# Altium schematic symbol library FMC_SDR.SchLib: 34 symbols
Pins are listed as number, name and electrical type; pins without a type are passive.

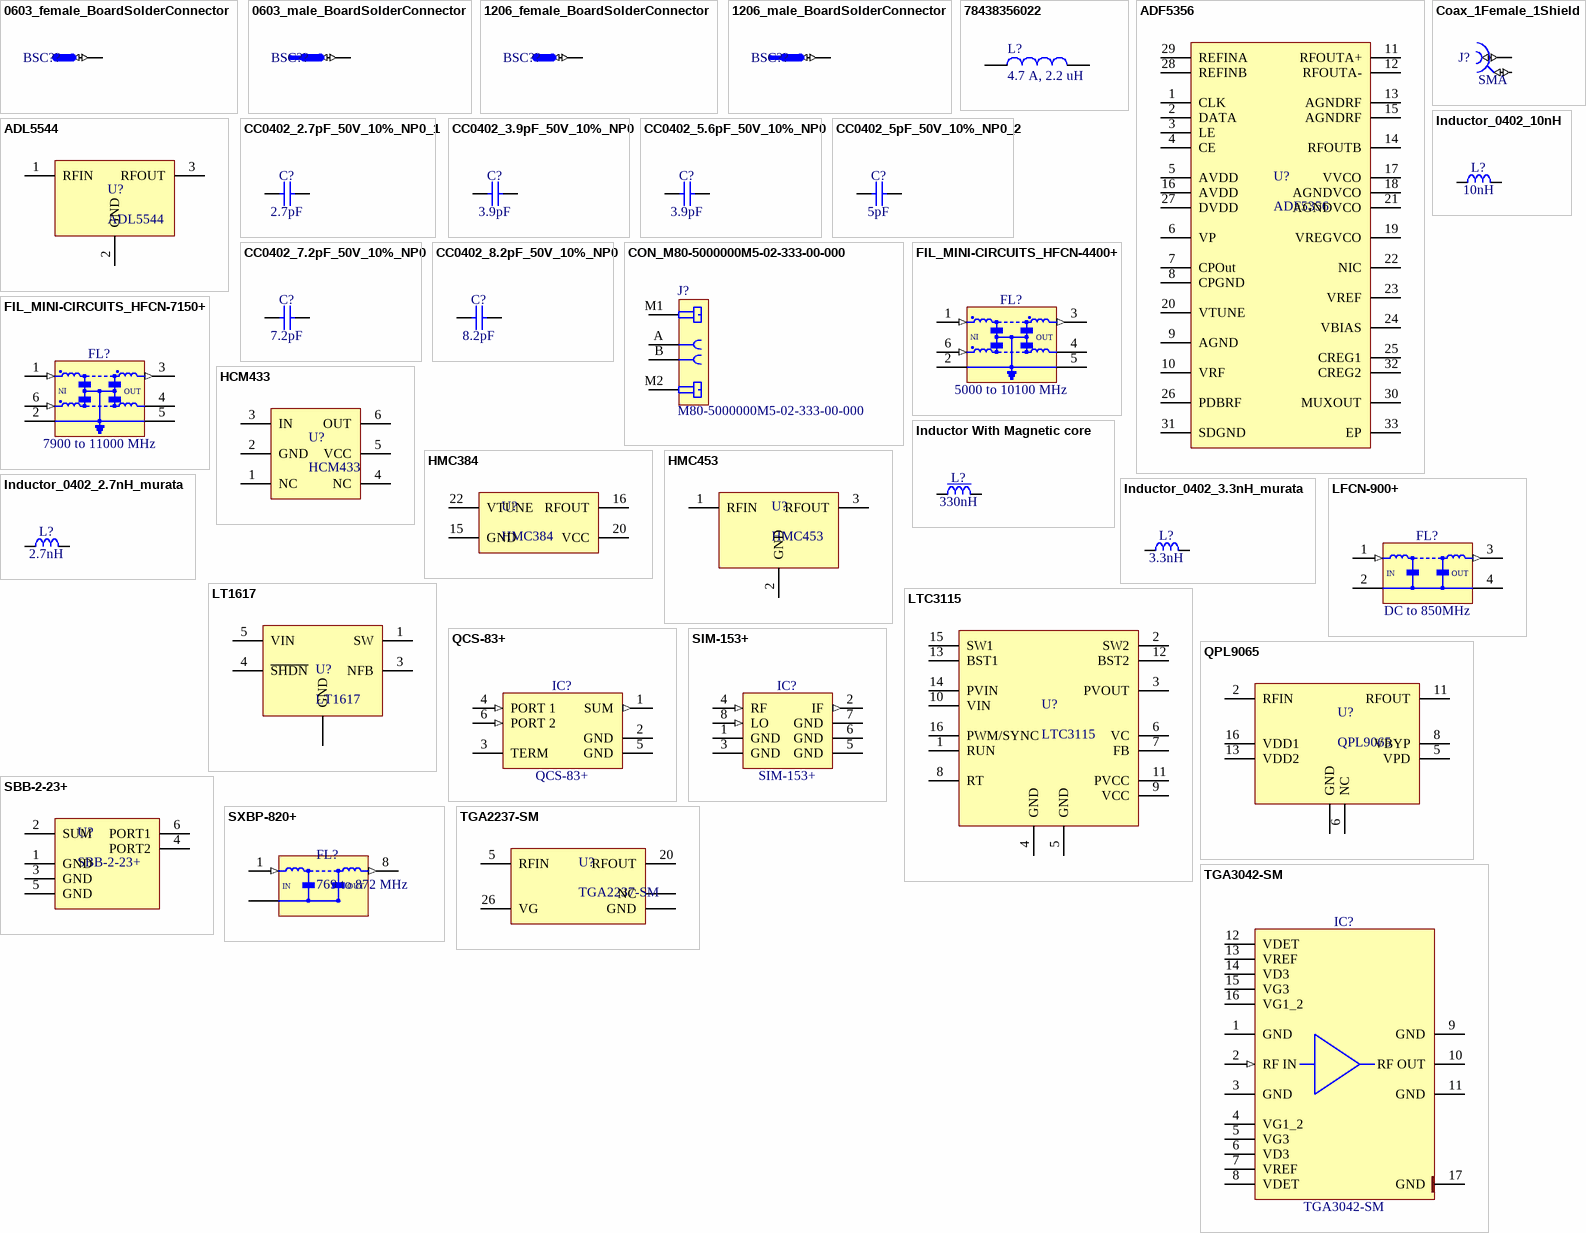
[diagram p0: symbols 0603_female_BoardSolderConnector to TGA3042-SM]

## 0603_female_BoardSolderConnector
designator BSC??, comment 0603 Female  (value not drawn)
Part Description: Board connection - soldered 0603 jumper; PressFit: No; Pin Count: 1; Socket: No; SMD: Yes; Sense: No; Status: None
footprint PCB_CONN_0603F (Colder connection between boards - by 0603 0R jumper)
pins: 1 (io)

## 0603_male_BoardSolderConnector
designator BSC??, comment 06031206 Male  (value not drawn)
Part Description: Board connection - soldered 0603 jumper; PressFit: No; Pin Count: 1; Socket: No; SMD: Yes; Sense: No; Status: None
footprint PCB_CONN_0603M (Colder connection between boards - by 0603 0R jumper)
pins: 1 (io)

## 1206_female_BoardSolderConnector
designator BSC??, comment 1206 Female  (value not drawn)
Part Description: Board connection - soldered 1206 jumper; PressFit: No; Pin Count: 1; Socket: No; SMD: Yes; Sense: No; Status: None
footprint PCB_CONN_1206F (Colder connection between boards - by 1206 0R jumper)
pins: 1 (io)

## 1206_male_BoardSolderConnector
designator BSC??, comment 1206 Male  (value not drawn)
Part Description: Board connection - soldered 1206 jumper; PressFit: No; Pin Count: 1; Socket: No; SMD: Yes; Sense: No; Status: None
footprint PCB_CONN_1206M (Colder connection between boards - by 1206 0R jumper)
pins: 1 (io)

## 78438356022
designator L?, comment 4.7 A, 2.2 uH
WE-MAIA SMD Power Inductor, size 4020, 4.7 A, 2.2 uH; Part Number: 78438356022; Rated Current: 4.7 A; Inductance: 2.2 uH; DC Resistance max.: 35 mOhm; ComponentLink1Description: Manufacturer; ComponentLink1URL: http://www.we-online.de; ComponentLink2Description: Datasheet; ComponentLink2URL: http://katalog.we-online.de/pbs/datasheet/78438356022.pdf; Published Date: Nov. 2017; Publisher: Wurth Elektronik; Size: 4020; Operating Temperature: -40 to 125 degC
footprint WE-MAIA_4020
pins: 1, 2

## ADF5356
designator U?
footprint ADF3356 (QFN, 32-Leads, Body 5,00x5,00mm, Pitch 0,50mm, Thermal Pad 3,65x3,65mm, IPC Low Density)
pins: 1 CLK, 2 DATA, 3 LE, 4 CE, 5 AVDD, 6 VP, 7 CPOut, 8 CPGND, 9 AGND, 10 VRF, 11 RFOUTA+, 12 RFOUTA-, 13 AGNDRF, 14 RFOUTB, 15 AGNDRF, 16 AVDD, 17 VVCO, 18 AGNDVCO, 19 VREGVCO, 20 VTUNE, 21 AGNDVCO, 22 NIC, 23 VREF, 24 VBIAS, 25 CREG1, 26 PDBRF, 27 DVDD, 28 REFINB, 29 REFINA, 30 MUXOUT, 31 SDGND, 32 CREG2, 33 EP

## ADL5544
designator U?
footprint ADL5544 (SOT89, 3-Leads, Body 4,50x2,45mm, Pitch 1,50mm, Lead Span 3,5mm, IPC Low Density)
pins: 1 RFIN, 2 GND, 3 RFOUT

## CC0402_2.7pF_50V_10%_NP0_1
designator C?, comment 2.7pF
Part Number: CC0402_2.7pF_50V_10%_NP0; Part Description: SMD Multilayer Chip Ceramic Capacitor; Manufacturer: GENERIC; Voltage: 50V; TC: NP0; Tolerance: ±10%; Component Kind: Standard; Component Type: Standard; Footprint: CAPC1005X55N; Pin Count: 2; Value: 2.7pF; Status: Not Recommended; Manufacturer Part Number: CC0402_2.7pF_50V_10%_NP0; Case: 0402; Socket: No; SMD: Yes; Sense: No; Author: SHA
footprint CAPC1005X55N
pins: 1, 2

## CC0402_3.9pF_50V_10%_NP0
designator C?, comment 3.9pF
Standard Cap; Part Number: CC0402_3.9pF_50V_10%_NP0; Part Description: SMD Multilayer Chip Ceramic Capacitor; Manufacturer: Murata; Manufacturer Part Number: GCQ1555C1H3R9WB01D; Voltage: 50V; TC: NP0; Tolerance: ±10%; Component Kind: Standard; Component Type: Standard; Footprint: CAPC1005X55N; Pin Count: 2; Value: 3.9pF; Status: Recommended; Case: 0402; Socket: No; SMD: Yes; Sense: No; Author: SHA
footprint CAPC1005X55N
pins: 1, 2

## CC0402_5.6pF_50V_10%_NP0
designator C?, comment 3.9pF
Standard Cap; Part Number: CC0402_3.9pF_50V_10%_NP0; Part Description: SMD Multilayer Chip Ceramic Capacitor; Manufacturer: Murata; Manufacturer Part Number: GCQ1555C1H3R9WB01D; Voltage: 50V; TC: NP0; Tolerance: ±10%; Component Kind: Standard; Component Type: Standard; Footprint: CAPC1005X55N; Pin Count: 2; Value: 3.9pF; Status: Recommended; Case: 0402; Socket: No; SMD: Yes; Sense: No; Author: SHA
footprint CAPC1005X55N
pins: 1, 2

## CC0402_5pF_50V_10%_NP0_2
designator C?, comment 5pF
Part Number: CC0402_5pF_50V_10%_NP0; Part Description: SMD Multilayer Chip Ceramic Capacitor; Manufacturer: GENERIC; Voltage: 50V; TC: NP0; Tolerance: ±10%; Component Kind: Standard; Component Type: Standard; Footprint: CAPC1005X55N; Pin Count: 2; Value: 5pF; Status: Not Recommended; Manufacturer Part Number: CC0402_5pF_50V_10%_NP0; Case: 0402; Socket: No; SMD: Yes; Sense: No; Author: SHA
footprint CAPC1005X55N
pins: 1, 2

## CC0402_7.2pF_50V_10%_NP0
designator C?, comment 7.2pF
Standard Cap; Part Number: CC0402_7.2pF_50V_10%_NP0; Part Description: SMD Multilayer Chip Ceramic Capacitor; Manufacturer: Murata; Manufacturer Part Number: GJM1555C1H7R2CB01D; Voltage: 50V; TC: NP0; Tolerance: ±10%; Component Kind: Standard; Component Type: Standard; Footprint: CAPC1005X55N; Pin Count: 2; Value: 7.2pF; Status: Recommended; Case: 0402; Socket: No; SMD: Yes; Sense: No; Author: SHA
footprint CAPC1005X55N
pins: 1, 2

## CC0402_8.2pF_50V_10%_NP0
designator C?, comment 8.2pF
Part Number: CC0402_8.2pF_50V_10%_NP0; Part Description: SMD Multilayer Chip Ceramic Capacitor; Manufacturer: GENERIC; Voltage: 50V; TC: NP0; Tolerance: ±10%; Component Kind: Standard; Component Type: Standard; Footprint: CAPC1005X55N; Pin Count: 2; Value: 8.2pF; Status: Not Recommended; Manufacturer Part Number: CC0402_8.2pF_50V_10%_NP0; Case: 0402; Socket: No; SMD: Yes; Sense: No; Author: SHA
footprint CAPC1005X55N
pins: 1, 2

## Coax_1Female_1Shield
designator J?, comment SMA
Part Number: TELEGARTNER_J01151A0451; Part Description: SMA 50 ohms Edge Mount Bulkhead Jack Receptacle; Manufacturer: TELEGARTNER; Manufacturer Part Number: J01151A0451; PressFit: No; Component Kind: Standard; Component Type: Standard; Footprint: TELEGARTNER_J01151A0451; Pin Count: 2; Family: SMA; Mounted: Yes; Socket: No; SMD: No; Sense: No; Status: None; ComponentHeight: 7mm; HelpURL: \\cern.ch\dfs\Applications\Altium\Datasheets\TELEGARTNER_J01151A0451.pdf; Author: CERN DEM JLC; CreateDate: 27/10/2016; LatestRevisionDate: 27/10/2016
footprint TELEGARTNER_J01151A0451
pins: 1 (io), 2 (io)

## CON_M80-5000000M5-02-333-00-000
designator J?, comment M80-5000000M5-02-333-00-000
2pin (2 power), THT socket with M2 jackscrews; Manufacturer: Harwin; Part Number: M80-5L10405M5-02-333-00-000; Bonding: No; ComponentHeigth: 6.05mm; PressFit: No; Case: M80-5000000M5-02-333-00-000; Component Kind: Standard; Component Type: Standard; CreateDate: 2018-06-18; Device: M80-5000000M5-02-333-00-000; Footprint: M80-5000000M5-02-333-00-000; HelpURL: https://www.harwin.com/products/M80-5000000M5-02-333-00-000/; LatestRevisionDate: 2018-06-18; Manufacturer Part Number: M80-5000000M5-02-333-00-000; Mounted: Yes; PackageDescription: H=6.05mm, W=18mm, D=8.6mm; Part Description: 2pin (2 power), THT socket with M2 jackscrews; Pin Count: 6; Sense: No; SMD: No; Socket: No; Value: *
footprint M80-5000000M5-02-333-00-000 (2pin (2 power), THT socket with M2 jackscrews (H=6.05mm, W=18mm, D=8.6mm))
pins: A, B, M1, M2

## FIL_MINI-CIRCUITS_HFCN-4400+
designator FL?, comment 5000 to 10100 MHz
50 Ohm 5000 to 10100 MHz   Bandpass Filter; Part Number: FIL_MINI-CIRCUITS_HFCN-4400+; Part Description: 50 Ohm Dual Band Pass Filter; Manufacturer: MINI-CIRCUITS; Manufacturer Part Number: HFCN-4400+; Component Kind: Standard; Component Type: Standard; Footprint: FIL_MINI-CIRCUITS_FV1206-1; Pin Count: 2; Value: 5000 to 10100 MHz; Status: None; Mounted: Yes; Socket: No; SMD: Yes; Sense: No; ComponentHeight: 0.89mm; HelpURL: \\cern.ch\dfs\Applications\Altium\Datasheets\FIL_MINI-CIRCUITS_LFCN-291-1PM+.pdf; Author: SH based on CERN; CreateDate: 27.10.2019; LatestRevisionDate: 27.10.2017
footprint FIL_MINI-CIRCUITS_FV1206-1
pins: 1 RFIN (in), 2 GND (power), 3 RFOUT (out), 4 GND (power), 5 GND (power), 6 RFIN (in)
text: IN; OUT

## FIL_MINI-CIRCUITS_HFCN-7150+
designator FL?, comment 7900 to 11000 MHz
50 Ohm 7900 to 11000 MHz  Bandpass Filter; Part Number: FIL_MINI-CIRCUITS_HFCN-7150+; Part Description: 50 Ohm Dual Low Pass Filter; Manufacturer: MINI-CIRCUITS; Manufacturer Part Number: HFCN-7150+; Component Kind: Standard; Component Type: Standard; Footprint: FIL_MINI-CIRCUITS_FV1206-1; Pin Count: 2; Value: 7900 to 11000 MHz; Status: None; Mounted: Yes; Socket: No; SMD: Yes; Sense: No; ComponentHeight: 0.89mm; HelpURL: \\cern.ch\dfs\Applications\Altium\Datasheets\FIL_MINI-CIRCUITS_LFCN-291-1PM+.pdf; Author: SH based on CERN; CreateDate: 27.10.2019; LatestRevisionDate: 29.03.2018
footprint FIL_MINI-CIRCUITS_FV1206-1
pins: 1 RFIN (in), 2 GND (power), 3 RFOUT (out), 4 GND (power), 5 GND (power), 6 RFIN (in)
text: IN; OUT

## HCM433
designator U?
pins: 1 NC, 2 GND, 3 IN, 4 NC, 5 VCC, 6 OUT

## HMC384
designator U?
footprint HMC384
pins: 15 GND, 16 RFOUT, 20 VCC, 22 VTUNE

## HMC453
designator U?
footprint HMC453 (SOT89, 3-Leads, Body 4,50x2,45mm, Pitch 1,50mm, Lead Span 4,0mm, IPC Medium Density)
pins: 1 RFIN, 2 GND, 3 RFOUT

## Inductor With Magnetic core
designator L?, comment 330nH
Inductor With Core; Part Number: IND_330NH_2%_COILCRAFT_0805CS; Part Description: SMT Chip Inductor; Manufacturer: COILCRAFT; Manufacturer Part Number: 0805CS-331XGL; Power: 310mA; Resistance: 1.4R; Tolerance: ±2%; Component Kind: Standard; Component Type: Standard; Footprint: IND_COILCRAFT_0805CS; Pin Count: 2; Value: 330nH; Status: None; Case: 0805; Mounted: Yes; Socket: No; SMD: Yes; Sense: No; ComponentHeight: 1.52mm; HelpURL: \\cern.ch\dfs\Applications\Altium\Datasheets\IND_COILCRAFT_0805CS.pdf; Author: CERN DEM JMW; CreateDate: 26.10.2015; LatestRevisionDate: 26.10.2015
footprint IND_COILCRAFT_0805CS
pins: 1, 2

## Inductor_0402_2.7nH_murata
designator L?, comment 2.7nH
RF Inductor; Part Number: LQG15HZ2N7S02D; Manufacturer: Murata; Tolerance: ±1%; Component Kind: Standard; Component Type: Standard; Pin Count: 2; Value: 2.7nH; Status: None; Manufacturer Part Number: LQG15HZ2N7S02D; Mounted: Yes; Socket: No; SMD: Yes; Sense: No
footprint INDC1005X55N (Chip Inductor, 2-Leads, EIA 0402, Metric 1005, Body 1x0.5mm, 0402IPC Medium Density)
pins: 1, 2

## Inductor_0402_3.3nH_murata
designator L?, comment 3.3nH
RF Inductor; Part Number: LQG15HZ3N3S02D; Manufacturer: Murata; Tolerance: ±1%; Component Kind: Standard; Component Type: Standard; Pin Count: 2; Value: 3.3nH; Status: None; Manufacturer Part Number: LQG15HZ3N3S02D; Mounted: Yes; Socket: No; SMD: Yes; Sense: No
footprint INDC1005X55N (Chip Inductor, 2-Leads, EIA 0402, Metric 1005, Body 1x0.5mm, 0402IPC Medium Density)
pins: 1, 2

## Inductor_0402_10nH
designator L?, comment 10nH
Inductor; Part Number: IND_10NH; Tolerance: ±1%; Component Kind: Standard; Component Type: Standard; Pin Count: 2; Value: 10nH; Status: None; Mounted: Yes; Socket: No; SMD: Yes; Sense: No
footprint INDC1005X55N (Chip Inductor, 2-Leads, EIA 0402, Metric 1005, Body 1x0.5mm, 0402IPC Medium Density)
pins: 1, 2

## LFCN-900+
designator FL?, comment DC to 850MHz
LTCC Low Pass Filter, DC -850 MHz; Part Number: FIL_MINI-CIRCUITS_LFCN-1575+; Part Description: 50 Ohm Low Pass Filter; Manufacturer: MINI-CIRCUITS; Manufacturer Part Number: LFCN-1575+; Value: DC to 1575MHz; Component Kind: Standard; Component Type: Standard; Footprint: FIL_MINI-CIRCUITS_FV1206; Pin Count: 2; Status: None; Mounted: Yes; Socket: No; SMD: Yes; Sense: No; ComponentHeight: 0.94mm; HelpURL: \\cern.ch\dfs\Applications\Altium\Datasheets\FIL_MINI-CIRCUITS_LFCN-1575+.pdf; Author: CERN DEM JLC; CreateDate: 21.04.2014; LatestRevisionDate: 21.04.2015
footprint FIL_MINI-CIRCUITS_FV1206
pins: 1 RFIN (in), 2 GND (power), 3 RFOUT (out), 4 GND (power)
text: IN; OUT

## LT1617
designator U?
footprint LT1617 (SOT23, 5-Leads, Body 2,90x2,80mm, Pitch 0,95mm, IPC Medium Density)
pins: 1 SW, 2 GND, 3 NFB, 4 ~{SHDN}, 5 VIN

## LTC3115
designator U?
footprint LTC3115_TSSOP (TSOP, 20-Leads, Body 6,50x4,40mm, Pitch 0,65mm, Thermal Pad 5,05x2,84mm, IPC Medium Density)
pins: 1 RUN, 2 SW2, 3 PVOUT, 4 GND, 5 GND, 6 VC, 7 FB, 8 RT, 9 VCC, 10 VIN, 11 PVCC, 12 BST2, 13 BST1, 14 PVIN, 15 SW1, 16 PWM/SYNC

## QCS-83+
designator IC?
2 Way-90° Power Splitter,50Ω 4000 to 8000 MHz; Part Description: 2 Way-0°, 50 Ohms, 1 to 650MHz, Power Splitter/Combiner; Manufacturer: MINI-CIRCUITS; PressFit: No; Bonding: No; Part Number: QCS-83+; Component Kind: Standard; Component Type: Standard; Device: QCS-83+; Footprint: MINI-CIRCUITS_GE0805C-1; PackageDescription: MINI-CIRCUITS_GE0805C-1; Manufacturer Part Number: QCS-83+; Pin Count: 6; Mounted: Yes; Socket: No; SMD: Yes; Sense: No; ComponentHeight: 0.84mm; Author: SH based on CERN; HelpURL: \\cern.ch\dfs\Applications\Altium\Datasheets\ADP-2-1W+.pdf; CreateDate: 27.10.2019; LatestRevisionDate: 27.10.2019
footprint MINI-CIRCUITS_GE0805C-1 (MINI-CIRCUITS GE0805C-1 Case, 0.66mm pitch; 6 pin, 2.01mm W X 1.24mm L)
pins: 1 SUM (out), 2 GND, 3 TERM (power), 4 PORT 1 (in), 5 GND, 6 PORT 2 (in)

## QPL9065
designator U?
footprint QPL9065
pins: 1,3,4,7,9,10,12,14,15,17 GND, 2 RFIN, 5 VPD, 6 NC, 8 VBYP, 11 RFOUT, 13 VDD2, 16 VDD1

## SBB-2-23+
designator U?
pins: 1 GND, 2 SUM, 3 GND, 4 PORT2, 5 GND, 6 PORT1

## SIM-153+
designator IC?
Level 7 (LO Power +7 dBm) 3400 to 15000 MHz; Part Description: Frequency Mixer - Level 13 (LO Power +13 dBm) 7300 to 20000MHz; Manufacturer: MINI-CIRCUITS; PressFit: No; Bonding: No; Part Number: SIM-153+; Component Kind: Standard; Component Type: Standard; Device: SIM-153+; Footprint: MINI-CIRCUITS_HV1195; PackageDescription: MINI-CIRCUITS HV1195 Case, 1.27mm pitch; 8 pin, 4.57mm W X 5.08mm L; Manufacturer Part Number: SIM-153+; Pin Count: 8; Mounted: Yes; Socket: No; SMD: Yes; Sense: No; ComponentHeight: 2.21mm; Author: CERN DEM JLC; HelpURL: \\cern.ch\dfs\Applications\Altium\Datasheets\SIM-24MH+.pdf; CreateDate: 29.10.2014; LatestRevisionDate: 29.10.2014
footprint MINI-CIRCUITS_HV1195
pins: 1 GND (power), 2 IF (out), 3 GND (power), 4 RF (in), 5 GND (power), 6 GND (power), 7 GND (power), 8 LO (in)

## SXBP-820+
designator FL?, comment 769 to 872 MHz
Surface Mount / Bandpass Filter, 769 to 872 MHz
footprint SXBP-820+ (Chip Array, Concave, 8-Leads, Pitch 5,08mm,  Body 18,80x11,18mm,  IPC Medium Density)
pins: 1 RFIN (in), 2,3,4,5,6,7 GND (power), 8 RFOUT (out)
text: IN; OUT

## TGA2237-SM
designator U?
footprint TGA2237-SM (QFN, 32-Leads, Body 5,00x5,00mm, Pitch 0,51mm, Thermal Pad 3,40x3,40mm, IPC Low Density)
pins: 1,2,4,6,8,9,16,17,19,21,23,24,25,32 GND, 3,7,10,11,12,13,14,15,18,22,27,28,29,30,31 NC, 5 RFIN, 20 RFOUT, 26 VG

## TGA3042-SM
designator IC?
7-10.5GHz 4.5W GaN Power Amplifier; Manufacturer: QORVO; PressFit: No; Bonding: No; Part Number: TGA3042-SM; Component Kind: Standard; Component Type: Standard; Device: TGA3042-SM; Footprint: QORVO_TGA3042-SM; PackageDescription: QFN, 0.566mm Pitch X, 0.525 Pitch Y, Square; 16 Pin, 4.5mm L X 4.5mm W X 1.74mm H Body; Part Description: 7-10.5GHz 4.5W GaN Power Amplifier; Manufacturer Part Number: TGA3042-SM; Pin Count: 17; Case: QFN16; Mounted: Yes; Socket: No; SMD: Yes; Sense: No; ComponentHeight: 1.91mm; Author: CERN DEM JLC; HelpURL: \\cern.ch\dfs\Applications\Altium\Datasheets\TGA3042-SM.pdf; CreateDate: 26.03.2019; LatestRevisionDate: 26.03.2019
footprint QORVO_TGA3042-SM
pins: 1 GND (power), 2 RF IN (in), 3 GND (power), 4 VG1_2 (power), 5 VG3 (power), 6 VD3 (power), 7 VREF (power), 8 VDET (power), 9 GND (power), 10 RF OUT (power), 11 GND (power), 12 VDET (power), 13 VREF (power), 14 VD3 (power), 15 VG3 (power), 16 VG1_2 (power), 17 GND (power)